# Altium schematic symbol library Schlib1.SchLib: 2 symbols
Pins are listed as number, name and electrical type; pins without a type are passive.

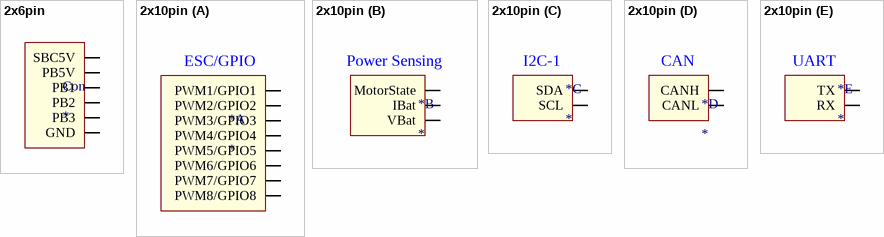
[diagram p0: symbols 2x6pin to 2x10pin]

## 2x6pin
designator Con
footprint 2x6pin
pins: 1 SBC5V, 2 PB5V, 3 PB1, 4 PB2, 5 PB3, 6 GND

## 2x10pin
designator *
footprint 2x10pin
part A pins: 1 PWM1/GPIO1, 2 PWM2/GPIO2, 3 PWM3/GPIO3, 4 PWM4/GPIO4, 5 PWM5/GPIO5, 6 PWM6/GPIO6, 7 PWM7/GPIO7, 8 PWM8/GPIO8
part B pins: 10 MotorState, 11 IBat, 12 VBat
part C pins: 13 SDA, 14 SCL
part D pins: 15 CANH, 16 CANL
part E pins: 19 TX, 20 RX
part A text: ESC/GPIO
part B text: Power Sensing
part C text: I2C-1
part D text: CAN
part E text: UART